# Altium integrated library Cypress Clocks & Buffers Clock Distribution.IntLib: 321 symbols (part 19 of 25)
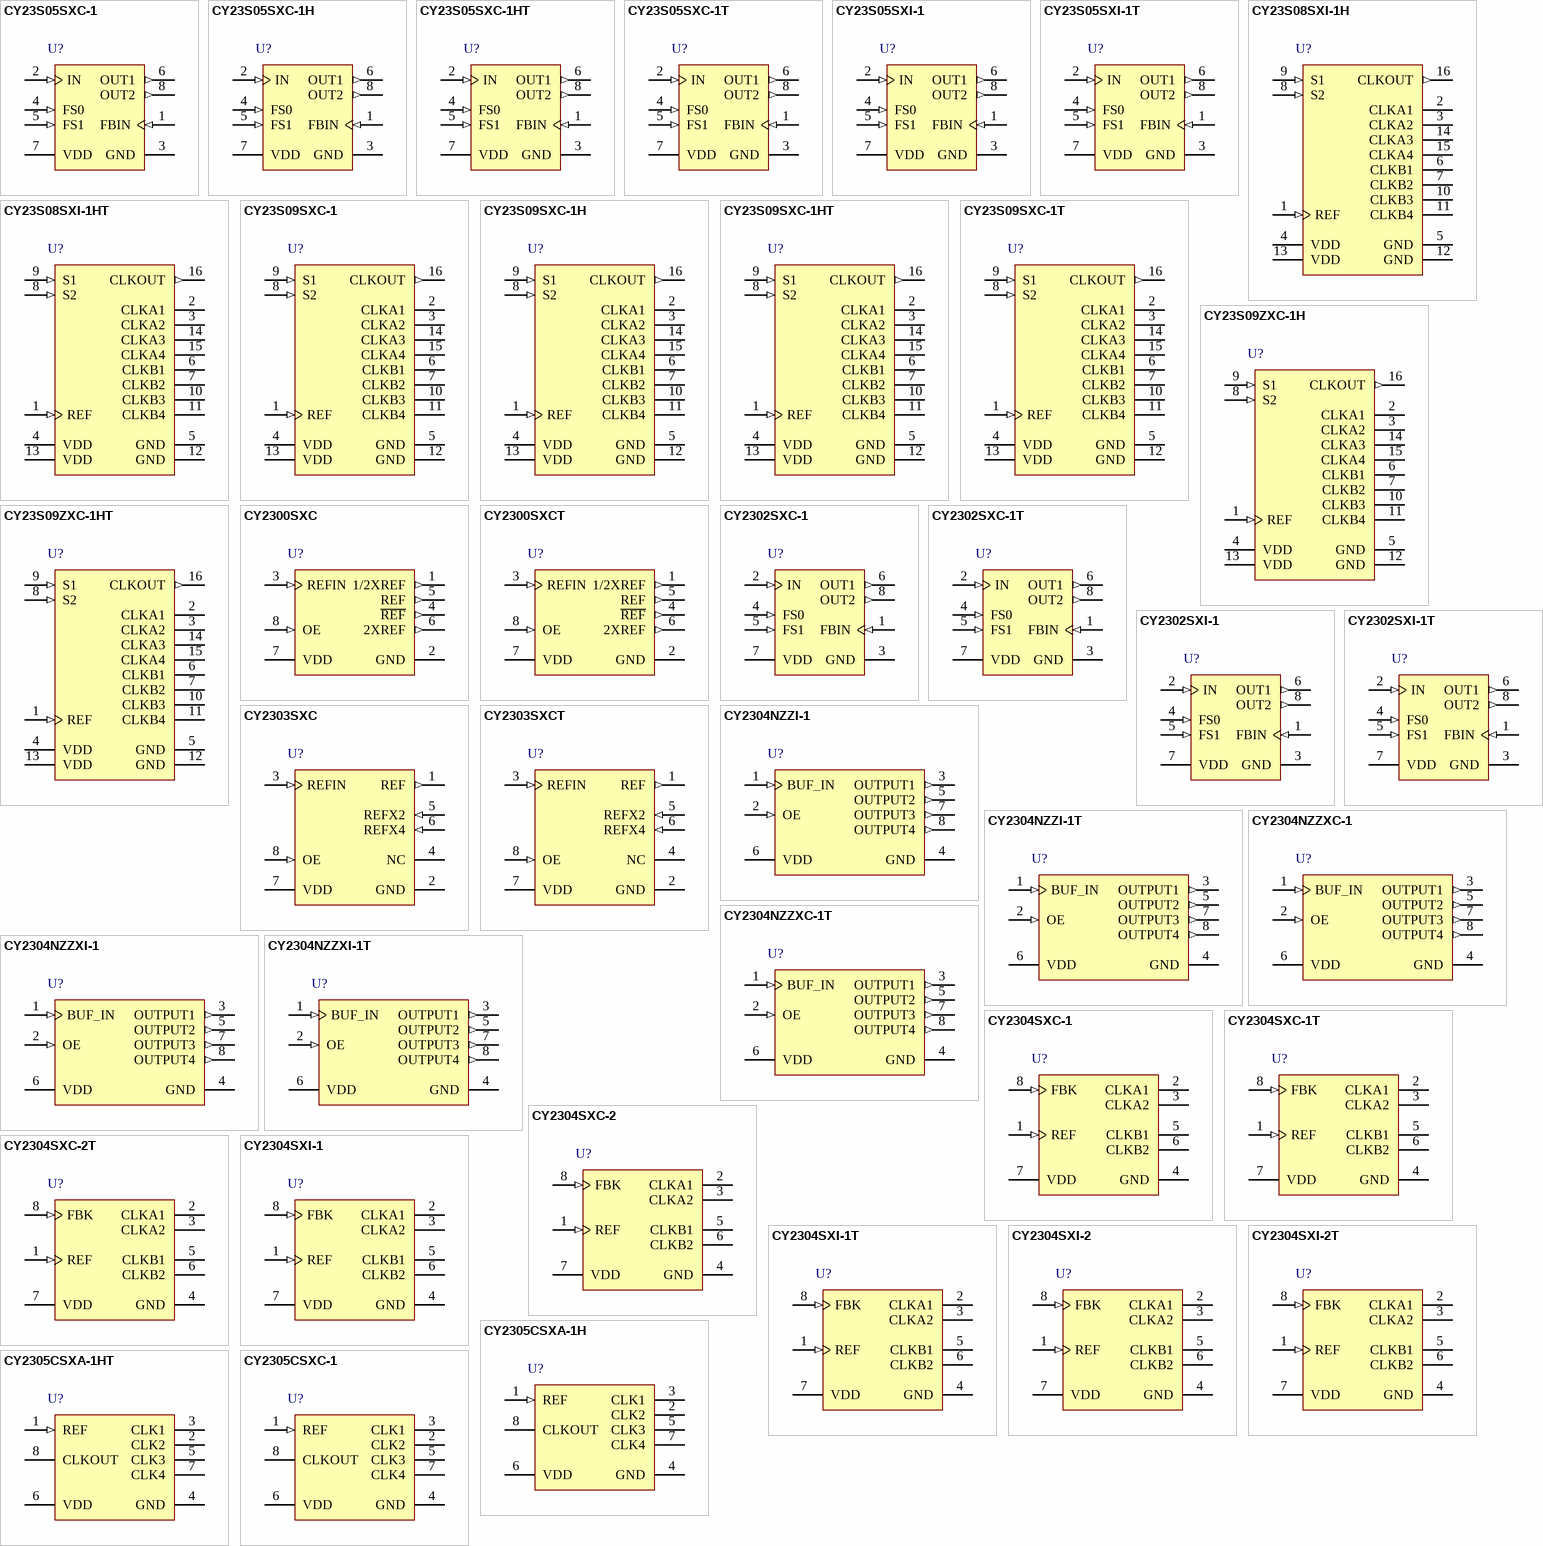
[diagram p34: symbols CY23S05SXC-1 to CY2305CSXC-1]

## CY23S09SXC-1T
designator U?
Low Cost Spread Aware Zero Delay Buffer, 3.3 V, 9 Outputs, 10 to 133 MHz, 0 to 70 degC, 16-Pin SOIC (SX16), Tape and Reel; Manufacturer: Cypress; PartNumber: CY23S09SXC-1T; Input Frequency Max. (MHz): 133; Input Frequency Min. (MHz): 10; Max. Operating Voltage (V): 3.6; Min. Operating Voltage (V): 3; No. of Outputs: 9; DatasheetVersion: Rev. *G; PackageVersion: Rev. *E, 09/2012; PackageReference: SX16; PackageDescription: 16-Pin SOIC (150 MIL), Body 9.89 x 3.90 mm, Pitch 1.27 mm; Supplier 1: Mouser; Supplier Part Number 1: 727-CY23S09SXC-1T; Max. Operating Temp. (degreesC): 70; Min. Operating Temp. (degreesC): 0; Output Frequency Max. (MHz): 133; Output Frequency Min. (MHz): 10; Packing: Tape and Reel; RoHS: Pb-Free; Mounting Technology: Surface Mount; Code_JEDEC: MS-012; ComponentLink1Description: Manufacturer URL; ComponentLink1URL: http://www.cypress.com/; ComponentLink2Description: Datasheet; ComponentLink2URL: http://www.cypress.com/?docID=31676; ComponentLink3Description: Package Specification; ComponentLink3URL: http://www.cypress.com/?docID=39437
footprint CYP-SX16_N (SOIC, 16-Leads, Body 9.9x3.9mm, Pitch 1.27mm, IPC Medium Density)
footprint CYP-SX16_L (SOIC, 16-Leads, Body 9.9x3.9mm, Pitch 1.27mm, IPC High Density)
footprint CYP-SX16_M (SOIC, 16-Leads, Body 9.9x3.9mm, Pitch 1.27mm, IPC Low Density)
pins: 1 REF (in) "Input reference frequency, 5 V tolerant input", 2 CLKA1 (hiz) "Buffered clock output, Bank A", 3 CLKA2 (hiz) "Buffered clock output, Bank A", 4 VDD (power) "3.3 V supply", 5 GND (power) "Ground", 6 CLKB1 (hiz) "Buffered clock output, Bank B", 7 CLKB2 (hiz) "Buffered clock output, Bank B", 8 S2 (in) "Select input, bit 2", 9 S1 (in) "Select input, bit 1", 10 CLKB3 (hiz) "Buffered clock output, Bank B", 11 CLKB4 (hiz) "Buffered clock output, Bank B", 12 GND (power) "Ground", 13 VDD (power) "3.3 V supply", 14 CLKA3 (hiz) "Buffered clock output, Bank A", 15 CLKA4 (hiz) "Buffered clock output, Bank A", 16 CLKOUT (out) "Buffered output, internal feedback on this pin"

## CY23S09ZXC-1H
designator U?
Low Cost Spread Aware Zero Delay Buffer, 3.3 V, 9 Outputs, 10 to 133 MHz, 0 to 70 degC, 16-Pin TSSOP (ZX16), Tube; Manufacturer: Cypress; PartNumber: CY23S09ZXC-1H; Input Frequency Max. (MHz): 133; Input Frequency Min. (MHz): 10; Max. Operating Voltage (V): 3.6; Min. Operating Voltage (V): 3; No. of Outputs: 9; DatasheetVersion: Rev. *G; PackageVersion: Rev. *D, 09/2011; PackageReference: ZX16; PackageDescription: 16-Pin Thin Shrink Small Outline Package, Body 5 x 4.4 mm, Pitch 0.65 mm; Supplier 1: Digi-Key; Supplier Part Number 1: 428-2216-5-ND; Supplier 2: Mouser; Supplier Part Number 2: 727-CY23S09ZXC-1H; Max. Operating Temp. (degreesC): 70; Min. Operating Temp. (degreesC): 0; Output Frequency Max. (MHz): 133; Output Frequency Min. (MHz): 10; Packing: Tube; RoHS: Pb-Free; Mounting Technology: Surface Mount; Code_JEDEC: MO-153; ComponentLink1Description: Manufacturer URL; ComponentLink1URL: http://www.cypress.com/; ComponentLink2Description: Datasheet; ComponentLink2URL: http://www.cypress.com/?docID=31676; ComponentLink3Description: Package Specification; ComponentLink3URL: http://www.cypress.com/?docID=39143
footprint CYP-ZX16_N (SOP, 16-Leads, Body 5.1x4.5mm, Pitch 0.65mm, IPC Medium Density)
footprint CYP-ZX16_L (SOP, 16-Leads, Body 5.1x4.5mm, Pitch 0.65mm, IPC High Density)
footprint CYP-ZX16_M (SOP, 16-Leads, Body 5.1x4.5mm, Pitch 0.65mm, IPC Low Density)
pins: 1 REF (in) "Input reference frequency, 5 V tolerant input", 2 CLKA1 (hiz) "Buffered clock output, Bank A", 3 CLKA2 (hiz) "Buffered clock output, Bank A", 4 VDD (power) "3.3 V supply", 5 GND (power) "Ground", 6 CLKB1 (hiz) "Buffered clock output, Bank B", 7 CLKB2 (hiz) "Buffered clock output, Bank B", 8 S2 (in) "Select input, bit 2", 9 S1 (in) "Select input, bit 1", 10 CLKB3 (hiz) "Buffered clock output, Bank B", 11 CLKB4 (hiz) "Buffered clock output, Bank B", 12 GND (power) "Ground", 13 VDD (power) "3.3 V supply", 14 CLKA3 (hiz) "Buffered clock output, Bank A", 15 CLKA4 (hiz) "Buffered clock output, Bank A", 16 CLKOUT (out) "Buffered output, internal feedback on this pin"

## CY23S09ZXC-1HT
designator U?
Low Cost Spread Aware Zero Delay Buffer, 3.3 V, 9 Outputs, 10 to 133 MHz, 0 to 70 degC, 16-Pin TSSOP (ZX16), Tape and Reel; Manufacturer: Cypress; PartNumber: CY23S09ZXC-1HT; Input Frequency Max. (MHz): 133; Input Frequency Min. (MHz): 10; Max. Operating Voltage (V): 3.6; Min. Operating Voltage (V): 3; No. of Outputs: 9; DatasheetVersion: Rev. *G; PackageVersion: Rev. *D, 09/2011; PackageReference: ZX16; PackageDescription: 16-Pin Thin Shrink Small Outline Package, Body 5 x 4.4 mm, Pitch 0.65 mm; Supplier 1: Mouser; Supplier Part Number 1: 727-CY23S09ZXC-1HT; Max. Operating Temp. (degreesC): 70; Min. Operating Temp. (degreesC): 0; Output Frequency Max. (MHz): 133; Output Frequency Min. (MHz): 10; Packing: Tape and Reel; RoHS: Pb-Free; Mounting Technology: Surface Mount; Code_JEDEC: MO-153; ComponentLink1Description: Manufacturer URL; ComponentLink1URL: http://www.cypress.com/; ComponentLink2Description: Datasheet; ComponentLink2URL: http://www.cypress.com/?docID=31676; ComponentLink3Description: Package Specification; ComponentLink3URL: http://www.cypress.com/?docID=39143
footprint CYP-ZX16_N (SOP, 16-Leads, Body 5.1x4.5mm, Pitch 0.65mm, IPC Medium Density)
footprint CYP-ZX16_L (SOP, 16-Leads, Body 5.1x4.5mm, Pitch 0.65mm, IPC High Density)
footprint CYP-ZX16_M (SOP, 16-Leads, Body 5.1x4.5mm, Pitch 0.65mm, IPC Low Density)
pins: 1 REF (in) "Input reference frequency, 5 V tolerant input", 2 CLKA1 (hiz) "Buffered clock output, Bank A", 3 CLKA2 (hiz) "Buffered clock output, Bank A", 4 VDD (power) "3.3 V supply", 5 GND (power) "Ground", 6 CLKB1 (hiz) "Buffered clock output, Bank B", 7 CLKB2 (hiz) "Buffered clock output, Bank B", 8 S2 (in) "Select input, bit 2", 9 S1 (in) "Select input, bit 1", 10 CLKB3 (hiz) "Buffered clock output, Bank B", 11 CLKB4 (hiz) "Buffered clock output, Bank B", 12 GND (power) "Ground", 13 VDD (power) "3.3 V supply", 14 CLKA3 (hiz) "Buffered clock output, Bank A", 15 CLKA4 (hiz) "Buffered clock output, Bank A", 16 CLKOUT (out) "Buffered output, internal feedback on this pin"

## CY2300SXC
designator U?
Phase-Aligned Clock Multiplier, 3.3 V, 4 Outputs, 10 to 166.67 MHz, 0 to 70 degC, 8-Pin SOIC (SX8), Tube; Manufacturer: Cypress; PartNumber: CY2300SXC; Max. Operating Voltage (V): 3.6; Min. Operating Voltage (V): 3; No. of Outputs: 4; Output Frequency Max. (MHz): 166.67; Output Frequency Min. (MHz): 10; DatasheetVersion: Rev. *E; PackageVersion: Rev. *E, 06/2011; PackageReference: SX8; PackageDescription: 8-pin Lead SOIC-S08, Body 4.89 x 3.90 mm,Pitch 1.27 mm; Supplier 1: Digi-Key; Supplier Part Number 1: CY2300SXC-ND; Supplier 2: Mouser; Supplier Part Number 2: 727-CY2300SXC; Max. Operating Temp. (degreesC): 70; Min. Operating Temp. (degreesC): 0; Packing: Tube; RoHS: Pb-Free; Mounting Technology: Surface Mount; Code_JEDEC: MS-012; ComponentLink1Description: Manufacturer URL; ComponentLink1URL: http://www.cypress.com/; ComponentLink2Description: Datasheet; ComponentLink2URL: http://www.cypress.com/?docID=46963; ComponentLink3Description: Package Specification; ComponentLink3URL: http://www.cypress.com/?docID=39153
footprint CYP-SX8_N (SOIC, 8-Leads, Body 4.89x3.90mm, Pitch 1.27mm, IPC Medium Density)
footprint CYP-SX8_L (SOIC, 8-Leads, Body 4.89x3.90mm, Pitch 1.27mm, IPC High Density)
footprint CYP-SX8_M (SOIC, 8-Leads, Body 4.89x3.90mm, Pitch 1.27mm, IPC Low Density)
pins: 1 1/2XREF (out) "Clock output, 1/2x reference", 2 GND (power) "Ground", 3 REFIN (in) "Input reference frequency, 5 V tolerant input", 4 ~{REF} (out) "Clock output r\e\f\e\r\e\n\c\e\", 5 REF (out) "Clock output reference", 6 2XREF (out) "Clock output, 2x reference", 7 VDD (power) "3.3 V Supply", 8 OE (in) "Output enable (weak pull-up)"

## CY2300SXCT
designator U?
Phase-Aligned Clock Multiplier, 3.3 V, 4 Outputs, 10 to 166.67 MHz, 0 to 70 degC, 8-Pin SOIC (SX8), Tape and Reel; Manufacturer: Cypress; PartNumber: CY2300SXCT; Max. Operating Voltage (V): 3.6; Min. Operating Voltage (V): 3; No. of Outputs: 4; Output Frequency Max. (MHz): 166.67; Output Frequency Min. (MHz): 10; DatasheetVersion: Rev. *E; PackageVersion: Rev. *E, 06/2011; PackageReference: SX8; PackageDescription: 8-pin Lead SOIC-S08, Body 4.89 x 3.90 mm,Pitch 1.27 mm; Supplier 1: Digi-Key; Supplier Part Number 1: CY2300SXCT-ND; Supplier 2: Newark; Supplier Part Number 2: 19M2113; Supplier 3: Mouser; Supplier Part Number 3: 727-CY2300SXCT; Max. Operating Temp. (degreesC): 70; Min. Operating Temp. (degreesC): 0; Packing: Tape and Reel; RoHS: Pb-Free; Mounting Technology: Surface Mount; Code_JEDEC: MS-012; ComponentLink1Description: Manufacturer URL; ComponentLink1URL: http://www.cypress.com/; ComponentLink2Description: Datasheet; ComponentLink2URL: http://www.cypress.com/?docID=46963; ComponentLink3Description: Package Specification; ComponentLink3URL: http://www.cypress.com/?docID=39153
footprint CYP-SX8_N (SOIC, 8-Leads, Body 4.89x3.90mm, Pitch 1.27mm, IPC Medium Density)
footprint CYP-SX8_L (SOIC, 8-Leads, Body 4.89x3.90mm, Pitch 1.27mm, IPC High Density)
footprint CYP-SX8_M (SOIC, 8-Leads, Body 4.89x3.90mm, Pitch 1.27mm, IPC Low Density)
pins: 1 1/2XREF (out) "Clock output, 1/2x reference", 2 GND (power) "Ground", 3 REFIN (in) "Input reference frequency, 5 V tolerant input", 4 ~{REF} (out) "Clock output r\e\f\e\r\e\n\c\e\", 5 REF (out) "Clock output reference", 6 2XREF (out) "Clock output, 2x reference", 7 VDD (power) "3.3 V Supply", 8 OE (in) "Output enable (weak pull-up)"

## CY2302SXC-1
designator U?
Frequency Multiplier and Zero Delay Buffer, 3.3 / 5.0 V, 2 Outputs, 5 to 133 MHz, 0 to 70 degC, 8-Pin SOIC (SX8), Tube; Manufacturer: Cypress; PartNumber: CY2302SXC-1; Input Frequency Max. (MHz): 133; Input Frequency Min. (MHz): 5; Max. Operating Voltage (V): 5.5; Min. Operating Voltage (V): 3.135; No. of Outputs: 2; DatasheetVersion: Rev. *F; PackageVersion: Rev. *E, 06/2011; PackageReference: SX8; PackageDescription: 8-pin Lead SOIC-S08, Body 4.89 x 3.90 mm,Pitch 1.27 mm; Supplier 1: Digi-Key; Supplier Part Number 1: 428-2187-5-ND; Supplier 2: Farnell; Supplier Part Number 2: 1545753; Supplier 3: Newark; Supplier Part Number 3: 19M2116; Supplier 4: Mouser; Supplier Part Number 4: 727-CY2302SXC-1; Max. Operating Temp. (degreesC): 70; Min. Operating Temp. (degreesC): 0; Output Frequency Max. (MHz): 133; Output Frequency Min. (MHz): 5; Packing: Tube; RoHS: Pb-Free; Mounting Technology: Surface Mount; Code_JEDEC: MS-012; ComponentLink1Description: Manufacturer URL; ComponentLink1URL: http://www.cypress.com/; ComponentLink2Description: Datasheet; ComponentLink2URL: http://www.cypress.com/?docID=48817; ComponentLink3Description: Package Specification; ComponentLink3URL: http://www.cypress.com/?docID=39153
footprint CYP-SX8_N (SOIC, 8-Leads, Body 4.89x3.90mm, Pitch 1.27mm, IPC Medium Density)
footprint CYP-SX8_L (SOIC, 8-Leads, Body 4.89x3.90mm, Pitch 1.27mm, IPC High Density)
footprint CYP-SX8_M (SOIC, 8-Leads, Body 4.89x3.90mm, Pitch 1.27mm, IPC Low Density)
pins: 1 FBIN (in) "Feedback Input: This input must be fed by one of the outputs (OUT1 or OUT2) to ensure proper functionality. If the trace between FBIN and the output pin being used for feedback is equal in length to the traces between the (See Datasheet)", 2 IN (in) "Reference Input: The output signals are synchronized to this signal.", 3 GND (power) "Ground Connection: Connect all grounds to the common system ground plane.", 4 FS0 (in) "Function Select Inputs: Tie to VDD (HIGH, 1) or GND (LOW, 0) as desired per Table 1.", 5 FS1 (in) "Function Select Inputs: Tie to VDD (HIGH, 1) or GND (LOW, 0) as desired per Table 1.", 6 OUT1 (out) "Output 1: The frequency of the signal provided by this pin is determined by the feedback signal connected to FBIN, and the FS0:1 inputs (see Table 1).", 7 VDD (power) "Power Connections: Connect to 3.3V or 5V. This pin should be bypassed with a 0.1-uF decoupling capacitor. Use ferrite beads to help reduce noise for optimal jitter performance.", 8 OUT2 (out) "Output 2: The frequency of the signal provided by this pin is one half of the frequency of OUT1. See Table 1."

## CY2302SXC-1T
designator U?
Frequency Multiplier and Zero Delay Buffer, 3.3 / 5.0 V, 2 Outputs, 5 to 133 MHz, 0 to 70 degC, 8-Pin SOIC (SX8), Tape and Reel; Manufacturer: Cypress; PartNumber: CY2302SXC-1T; Input Frequency Max. (MHz): 133; Input Frequency Min. (MHz): 5; Max. Operating Voltage (V): 5.5; Min. Operating Voltage (V): 3.135; No. of Outputs: 2; DatasheetVersion: Rev. *F; PackageVersion: Rev. *E, 06/2011; PackageReference: SX8; PackageDescription: 8-pin Lead SOIC-S08, Body 4.89 x 3.90 mm,Pitch 1.27 mm; Supplier 1: Digi-Key; Supplier Part Number 1: CY2302SXC-1T-ND; Supplier 2: Newark; Supplier Part Number 2: 19M2117; Supplier 3: Mouser; Supplier Part Number 3: 727-CY2302SXC-1T; Max. Operating Temp. (degreesC): 70; Min. Operating Temp. (degreesC): 0; Output Frequency Max. (MHz): 133; Output Frequency Min. (MHz): 5; Packing: Tape and Reel; RoHS: Pb-Free; Mounting Technology: Surface Mount; Code_JEDEC: MS-012; ComponentLink1Description: Manufacturer URL; ComponentLink1URL: http://www.cypress.com/; ComponentLink2Description: Datasheet; ComponentLink2URL: http://www.cypress.com/?docID=48817; ComponentLink3Description: Package Specification; ComponentLink3URL: http://www.cypress.com/?docID=39153
footprint CYP-SX8_N (SOIC, 8-Leads, Body 4.89x3.90mm, Pitch 1.27mm, IPC Medium Density)
footprint CYP-SX8_L (SOIC, 8-Leads, Body 4.89x3.90mm, Pitch 1.27mm, IPC High Density)
footprint CYP-SX8_M (SOIC, 8-Leads, Body 4.89x3.90mm, Pitch 1.27mm, IPC Low Density)
pins: 1 FBIN (in) "Feedback Input: This input must be fed by one of the outputs (OUT1 or OUT2) to ensure proper functionality. If the trace between FBIN and the output pin being used for feedback is equal in length to the traces between the (See Datasheet)", 2 IN (in) "Reference Input: The output signals are synchronized to this signal.", 3 GND (power) "Ground Connection: Connect all grounds to the common system ground plane.", 4 FS0 (in) "Function Select Inputs: Tie to VDD (HIGH, 1) or GND (LOW, 0) as desired per Table 1.", 5 FS1 (in) "Function Select Inputs: Tie to VDD (HIGH, 1) or GND (LOW, 0) as desired per Table 1.", 6 OUT1 (out) "Output 1: The frequency of the signal provided by this pin is determined by the feedback signal connected to FBIN, and the FS0:1 inputs (see Table 1).", 7 VDD (power) "Power Connections: Connect to 3.3V or 5V. This pin should be bypassed with a 0.1-uF decoupling capacitor. Use ferrite beads to help reduce noise for optimal jitter performance.", 8 OUT2 (out) "Output 2: The frequency of the signal provided by this pin is one half of the frequency of OUT1. See Table 1."

## CY2302SXI-1
designator U?
Frequency Multiplier and Zero Delay Buffer, 3.3 / 5.0 V, 2 Outputs, 5 to 133 MHz, -40 to 85 degC, 8-Pin SOIC (SX8), Tube; Manufacturer: Cypress; PartNumber: CY2302SXI-1; Input Frequency Max. (MHz): 133; Input Frequency Min. (MHz): 5; Max. Operating Voltage (V): 5.5; Min. Operating Voltage (V): 3.135; No. of Outputs: 2; DatasheetVersion: Rev. *F; PackageVersion: Rev. *E, 06/2011; PackageReference: SX8; PackageDescription: 8-pin Lead SOIC-S08, Body 4.89 x 3.90 mm,Pitch 1.27 mm; Supplier 1: Digi-Key; Supplier Part Number 1: 428-2188-5-ND; Supplier 2: Farnell; Supplier Part Number 2: 1876393; Supplier 3: Newark; Supplier Part Number 3: 53M3379; Supplier 4: Newark; Supplier Part Number 4: 08N5367; Supplier 5: Mouser; Supplier Part Number 5: 727-CY2302SXI-1; Max. Operating Temp. (degreesC): 85; Min. Operating Temp. (degreesC): -40; Output Frequency Max. (MHz): 133; Output Frequency Min. (MHz): 5; Packing: Tube; RoHS: Pb-Free; Mounting Technology: Surface Mount; Code_JEDEC: MS-012; ComponentLink1Description: Manufacturer URL; ComponentLink1URL: http://www.cypress.com/; ComponentLink2Description: Datasheet; ComponentLink2URL: http://www.cypress.com/?docID=48817; ComponentLink3Description: Package Specification; ComponentLink3URL: http://www.cypress.com/?docID=39153
footprint CYP-SX8_N (SOIC, 8-Leads, Body 4.89x3.90mm, Pitch 1.27mm, IPC Medium Density)
footprint CYP-SX8_L (SOIC, 8-Leads, Body 4.89x3.90mm, Pitch 1.27mm, IPC High Density)
footprint CYP-SX8_M (SOIC, 8-Leads, Body 4.89x3.90mm, Pitch 1.27mm, IPC Low Density)
pins: 1 FBIN (in) "Feedback Input: This input must be fed by one of the outputs (OUT1 or OUT2) to ensure proper functionality. If the trace between FBIN and the output pin being used for feedback is equal in length to the traces between the (See Datasheet)", 2 IN (in) "Reference Input: The output signals are synchronized to this signal.", 3 GND (power) "Ground Connection: Connect all grounds to the common system ground plane.", 4 FS0 (in) "Function Select Inputs: Tie to VDD (HIGH, 1) or GND (LOW, 0) as desired per Table 1.", 5 FS1 (in) "Function Select Inputs: Tie to VDD (HIGH, 1) or GND (LOW, 0) as desired per Table 1.", 6 OUT1 (out) "Output 1: The frequency of the signal provided by this pin is determined by the feedback signal connected to FBIN, and the FS0:1 inputs (see Table 1).", 7 VDD (power) "Power Connections: Connect to 3.3V or 5V. This pin should be bypassed with a 0.1-uF decoupling capacitor. Use ferrite beads to help reduce noise for optimal jitter performance.", 8 OUT2 (out) "Output 2: The frequency of the signal provided by this pin is one half of the frequency of OUT1. See Table 1."

## CY2302SXI-1T
designator U?
Frequency Multiplier and Zero Delay Buffer, 3.3 / 5.0 V, 2 Outputs, 5 to 133 MHz, -40 to 85 degC, 8-Pin SOIC (SX8), Tape and Reel; Manufacturer: Cypress; PartNumber: CY2302SXI-1T; Input Frequency Max. (MHz): 133; Input Frequency Min. (MHz): 5; Max. Operating Voltage (V): 5.5; Min. Operating Voltage (V): 3.135; No. of Outputs: 2; DatasheetVersion: Rev. *F; PackageVersion: Rev. *E, 06/2011; PackageReference: SX8; PackageDescription: 8-pin Lead SOIC-S08, Body 4.89 x 3.90 mm,Pitch 1.27 mm; Supplier 1: Digi-Key; Supplier Part Number 1: CY2302SXI-1T-ND; Supplier 2: Newark; Supplier Part Number 2: 41M1197; Supplier 3: Mouser; Supplier Part Number 3: 727-CY2302SXI-1T; Max. Operating Temp. (degreesC): 85; Min. Operating Temp. (degreesC): -40; Output Frequency Max. (MHz): 133; Output Frequency Min. (MHz): 5; Packing: Tape and Reel; RoHS: Pb-Free; Mounting Technology: Surface Mount; Code_JEDEC: MS-012; ComponentLink1Description: Manufacturer URL; ComponentLink1URL: http://www.cypress.com/; ComponentLink2Description: Datasheet; ComponentLink2URL: http://www.cypress.com/?docID=48817; ComponentLink3Description: Package Specification; ComponentLink3URL: http://www.cypress.com/?docID=39153
footprint CYP-SX8_N (SOIC, 8-Leads, Body 4.89x3.90mm, Pitch 1.27mm, IPC Medium Density)
footprint CYP-SX8_L (SOIC, 8-Leads, Body 4.89x3.90mm, Pitch 1.27mm, IPC High Density)
footprint CYP-SX8_M (SOIC, 8-Leads, Body 4.89x3.90mm, Pitch 1.27mm, IPC Low Density)
pins: 1 FBIN (in) "Feedback Input: This input must be fed by one of the outputs (OUT1 or OUT2) to ensure proper functionality. If the trace between FBIN and the output pin being used for feedback is equal in length to the traces between the (See Datasheet)", 2 IN (in) "Reference Input: The output signals are synchronized to this signal.", 3 GND (power) "Ground Connection: Connect all grounds to the common system ground plane.", 4 FS0 (in) "Function Select Inputs: Tie to VDD (HIGH, 1) or GND (LOW, 0) as desired per Table 1.", 5 FS1 (in) "Function Select Inputs: Tie to VDD (HIGH, 1) or GND (LOW, 0) as desired per Table 1.", 6 OUT1 (out) "Output 1: The frequency of the signal provided by this pin is determined by the feedback signal connected to FBIN, and the FS0:1 inputs (see Table 1).", 7 VDD (power) "Power Connections: Connect to 3.3V or 5V. This pin should be bypassed with a 0.1-uF decoupling capacitor. Use ferrite beads to help reduce noise for optimal jitter performance.", 8 OUT2 (out) "Output 2: The frequency of the signal provided by this pin is one half of the frequency of OUT1. See Table 1."

## CY2303SXC
designator U?
Phase-Aligned Clock Multiplier, 3.3 V, 3 Outputs, 10 to 166.67 MHz, 0 to 70 degC, 8-Pin SOIC (SX8), Tube; Manufacturer: Cypress; PartNumber: CY2303SXC; Input Frequency Max. (MHz): 166.67; Input Frequency Min. (MHz): 10; Max. Operating Voltage (V): 3.6; Min. Operating Voltage (V): 3; DatasheetVersion: Rev. *G; PackageVersion: Rev. *E, 06/2011; PackageReference: SX8; PackageDescription: 8-pin Lead SOIC-S08, Body 4.89 x 3.90 mm,Pitch 1.27 mm; Supplier 1: Digi-Key; Supplier Part Number 1: 428-2189-5-ND; Supplier 2: Mouser; Supplier Part Number 2: 727-CY2303SXC; Max. Operating Temp. (degreesC): 70; Min. Operating Temp. (degreesC): 0; No. of Outputs: 3; Output Frequency Max. (MHz): 166.67; Output Frequency Min. (MHz): 10; Packing: Tube; RoHS: Pb-Free; Mounting Technology: Surface Mount; Code_JEDEC: MS-012; ComponentLink1Description: Manufacturer URL; ComponentLink1URL: http://www.cypress.com/; ComponentLink2Description: Datasheet; ComponentLink2URL: http://www.cypress.com/?docID=46689; ComponentLink3Description: Package Specification; ComponentLink3URL: http://www.cypress.com/?docID=39153
footprint CYP-SX8_N (SOIC, 8-Leads, Body 4.89x3.90mm, Pitch 1.27mm, IPC Medium Density)
footprint CYP-SX8_L (SOIC, 8-Leads, Body 4.89x3.90mm, Pitch 1.27mm, IPC High Density)
footprint CYP-SX8_M (SOIC, 8-Leads, Body 4.89x3.90mm, Pitch 1.27mm, IPC Low Density)
pins: 1 REF (out) "REF output (1x reference input)", 2 GND (power) "Ground", 3 REFIN (in) "Input reference frequency, 5 V tolerant input", 4 NC "No connect", 5 REFX2 (in) "2x reference input", 6 REFX4 (in) "4x reference input", 7 VDD (power) "3.3 V supply", 8 OE (in) "Output enable (weak pull-up)"

## CY2303SXCT
designator U?
Phase-Aligned Clock Multiplier, 3.3 V, 3 Outputs, 10 to 166.67 MHz, 0 to 70 degC, 8-Pin SOIC (SX8), Tape and Reel; Manufacturer: Cypress; PartNumber: CY2303SXCT; Input Frequency Max. (MHz): 166.67; Input Frequency Min. (MHz): 10; Max. Operating Voltage (V): 3.6; Min. Operating Voltage (V): 3; DatasheetVersion: Rev. *G; PackageVersion: Rev. *E, 06/2011; PackageReference: SX8; PackageDescription: 8-pin Lead SOIC-S08, Body 4.89 x 3.90 mm,Pitch 1.27 mm; Supplier 1: Digi-Key; Supplier Part Number 1: CY2303SXCT-ND; Supplier 2: Mouser; Supplier Part Number 2: 727-CY2303SXCT; Max. Operating Temp. (degreesC): 70; Min. Operating Temp. (degreesC): 0; No. of Outputs: 3; Output Frequency Max. (MHz): 166.67; Output Frequency Min. (MHz): 10; Packing: Tape and Reel; RoHS: Pb-Free; Mounting Technology: Surface Mount; Code_JEDEC: MS-012; ComponentLink1Description: Manufacturer URL; ComponentLink1URL: http://www.cypress.com/; ComponentLink2Description: Datasheet; ComponentLink2URL: http://www.cypress.com/?docID=46689; ComponentLink3Description: Package Specification; ComponentLink3URL: http://www.cypress.com/?docID=39153
footprint CYP-SX8_N (SOIC, 8-Leads, Body 4.89x3.90mm, Pitch 1.27mm, IPC Medium Density)
footprint CYP-SX8_L (SOIC, 8-Leads, Body 4.89x3.90mm, Pitch 1.27mm, IPC High Density)
footprint CYP-SX8_M (SOIC, 8-Leads, Body 4.89x3.90mm, Pitch 1.27mm, IPC Low Density)
pins: 1 REF (out) "REF output (1x reference input)", 2 GND (power) "Ground", 3 REFIN (in) "Input reference frequency, 5 V tolerant input", 4 NC "No connect", 5 REFX2 (in) "2x reference input", 6 REFX4 (in) "4x reference input", 7 VDD (power) "3.3 V supply", 8 OE (in) "Output enable (weak pull-up)"

## CY2304NZZI-1
designator U?
PCI-X and General Purpose Buffer, 3.3 V, 4 Outputs, 140 MHz Maximum, -40 to 85 degC, 8-Pin TSSOP (Z8), Tube; Manufacturer: Cypress; PartNumber: CY2304NZZI-1; Input Frequency Max. (MHz): 140; Max. Operating Voltage (V): 3.6; Min. Operating Voltage (V): 3; No. of Outputs: 4; DatasheetVersion: Rev. *H; PackageVersion: Rev. *D; PackageReference: Z8; PackageDescription: 8-Pin Thin Shrink Small Outline Package, Body 4.4 x 3 mm, Pitch 0.65 mm; Supplier 1: Digi-Key; Supplier Part Number 1: CY2304NZZI-1-ND; Supplier 2: Mouser; Supplier Part Number 2: 727-CY2304NZZI1; Max. Operating Temp. (degreesC): 85; Min. Operating Temp. (degreesC): -40; Output Frequency Max. (MHz): 140; Packing: Tube; Mounting Technology: Surface Mount; Code_JEDEC: MO-153; ComponentLink1Description: Manufacturer URL; ComponentLink1URL: http://www.cypress.com/; ComponentLink2Description: Datasheet; ComponentLink2URL: http://www.cypress.com/?docID=48468; ComponentLink3Description: Package Specification; ComponentLink3URL: http://www.cypress.com/?docID=46096
footprint CYP-Z8_N (SOP, 8-Leads, Body 4.5x3.1mm, Pitch 0.65mm, IPC Medium Density)
footprint CYP-Z8_L (SOP, 8-Leads, Body 4.5x3.1mm, Pitch 0.65mm, IPC High Density)
footprint CYP-Z8_M (SOP, 8-Leads, Body 4.5x3.1mm, Pitch 0.65mm, IPC Low Density)
pins: 1 BUF_IN (in) "Input clock", 2 OE (in) "Input pin for output enable, active HIGH.", 3 OUTPUT1 (out) "Outputs", 4 GND (power) "Ground", 5 OUTPUT2 (out) "Outputs", 6 VDD (power) "3.3 V voltage supply", 7 OUTPUT3 (out) "Outputs", 8 OUTPUT4 (out) "Outputs"

## CY2304NZZI-1T
designator U?
PCI-X and General Purpose Buffer, 3.3 V, 4 Outputs, 140 MHz Maximum, -40 to 85 degC, 8-Pin TSSOP (Z8), Tape and Reel; Manufacturer: Cypress; PartNumber: CY2304NZZI-1T; Input Frequency Max. (MHz): 140; Max. Operating Voltage (V): 3.6; Min. Operating Voltage (V): 3; No. of Outputs: 4; DatasheetVersion: Rev. *H; PackageVersion: Rev. *D; PackageReference: Z8; PackageDescription: 8-Pin Thin Shrink Small Outline Package, Body 4.4 x 3 mm, Pitch 0.65 mm; Supplier 1: Mouser; Supplier Part Number 1: N/A; Max. Operating Temp. (degreesC): 85; Min. Operating Temp. (degreesC): -40; Output Frequency Max. (MHz): 140; Packing: Tape and Reel; Mounting Technology: Surface Mount; Code_JEDEC: MO-153; ComponentLink1Description: Manufacturer URL; ComponentLink1URL: http://www.cypress.com/; ComponentLink2Description: Datasheet; ComponentLink2URL: http://www.cypress.com/?docID=48468; ComponentLink3Description: Package Specification; ComponentLink3URL: http://www.cypress.com/?docID=46096
footprint CYP-Z8_N (SOP, 8-Leads, Body 4.5x3.1mm, Pitch 0.65mm, IPC Medium Density)
footprint CYP-Z8_L (SOP, 8-Leads, Body 4.5x3.1mm, Pitch 0.65mm, IPC High Density)
footprint CYP-Z8_M (SOP, 8-Leads, Body 4.5x3.1mm, Pitch 0.65mm, IPC Low Density)
pins: 1 BUF_IN (in) "Input clock", 2 OE (in) "Input pin for output enable, active HIGH.", 3 OUTPUT1 (out) "Outputs", 4 GND (power) "Ground", 5 OUTPUT2 (out) "Outputs", 6 VDD (power) "3.3 V voltage supply", 7 OUTPUT3 (out) "Outputs", 8 OUTPUT4 (out) "Outputs"

## CY2304NZZXC-1
designator U?
PCI-X and General Purpose Buffer, 3.3 V, 4 Outputs, 140 MHz Maximum, 0 to 70 degC, 8-Pin TSSOP (ZX8), Tube; Manufacturer: Cypress; PartNumber: CY2304NZZXC-1; Input Frequency Max. (MHz): 140; Max. Operating Voltage (V): 3.6; Min. Operating Voltage (V): 3; No. of Outputs: 4; DatasheetVersion: Rev. *H; PackageVersion: Rev. *D, 09/2011; PackageReference: ZX8; PackageDescription: 8-Pin Thin Shrink Small Outline Package, Body 4.4 x 3 mm, Pitch 0.65 mm; Supplier 1: Digi-Key; Supplier Part Number 1: 428-2190-ND; Supplier 2: Farnell; Supplier Part Number 2: 1837337; Supplier 3: Newark; Supplier Part Number 3: 19M5952; Supplier 4: Newark; Supplier Part Number 4: 14N5460; Supplier 5: Mouser; Supplier Part Number 5: 727-CY2304NZZXC-1; Max. Operating Temp. (degreesC): 70; Min. Operating Temp. (degreesC): 0; Output Frequency Max. (MHz): 140; Packing: Tube; RoHS: Pb-Free; Mounting Technology: Surface Mount; Code_JEDEC: MO-153; ComponentLink1Description: Manufacturer URL; ComponentLink1URL: http://www.cypress.com/; ComponentLink2Description: Datasheet; ComponentLink2URL: http://www.cypress.com/?docID=48468; ComponentLink3Description: Package Specification; ComponentLink3URL: http://www.cypress.com/?docID=39142
footprint CYP-ZX8_N (SOP, 8-Leads, Body 4.5x3.1mm, Pitch 0.65mm, IPC Medium Density)
footprint CYP-ZX8_L (SOP, 8-Leads, Body 4.5x3.1mm, Pitch 0.65mm, IPC High Density)
footprint CYP-ZX8_M (SOP, 8-Leads, Body 4.5x3.1mm, Pitch 0.65mm, IPC Low Density)
pins: 1 BUF_IN (in) "Input clock", 2 OE (in) "Input pin for output enable, active HIGH.", 3 OUTPUT1 (out) "Outputs", 4 GND (power) "Ground", 5 OUTPUT2 (out) "Outputs", 6 VDD (power) "3.3 V voltage supply", 7 OUTPUT3 (out) "Outputs", 8 OUTPUT4 (out) "Outputs"

## CY2304NZZXC-1T
designator U?
PCI-X and General Purpose Buffer, 3.3 V, 4 Outputs, 140 MHz Maximum, 0 to 70 degC, 8-Pin TSSOP (ZX8), Tape and Reel; Manufacturer: Cypress; PartNumber: CY2304NZZXC-1T; Input Frequency Max. (MHz): 140; Max. Operating Voltage (V): 3.6; Min. Operating Voltage (V): 3; No. of Outputs: 4; DatasheetVersion: Rev. *H; PackageVersion: Rev. *D, 09/2011; PackageReference: ZX8; PackageDescription: 8-Pin Thin Shrink Small Outline Package, Body 4.4 x 3 mm, Pitch 0.65 mm; Supplier 1: Digi-Key; Supplier Part Number 1: CY2304NZZXC-1T-ND; Supplier 2: Newark; Supplier Part Number 2: 19M5953; Supplier 3: Mouser; Supplier Part Number 3: 727-CY2304NZZXC-1T; Max. Operating Temp. (degreesC): 70; Min. Operating Temp. (degreesC): 0; Output Frequency Max. (MHz): 140; Packing: Tape and Reel; RoHS: Pb-Free; Mounting Technology: Surface Mount; Code_JEDEC: MO-153; ComponentLink1Description: Manufacturer URL; ComponentLink1URL: http://www.cypress.com/; ComponentLink2Description: Datasheet; ComponentLink2URL: http://www.cypress.com/?docID=48468; ComponentLink3Description: Package Specification; ComponentLink3URL: http://www.cypress.com/?docID=39142
footprint CYP-ZX8_N (SOP, 8-Leads, Body 4.5x3.1mm, Pitch 0.65mm, IPC Medium Density)
footprint CYP-ZX8_L (SOP, 8-Leads, Body 4.5x3.1mm, Pitch 0.65mm, IPC High Density)
footprint CYP-ZX8_M (SOP, 8-Leads, Body 4.5x3.1mm, Pitch 0.65mm, IPC Low Density)
pins: 1 BUF_IN (in) "Input clock", 2 OE (in) "Input pin for output enable, active HIGH.", 3 OUTPUT1 (out) "Outputs", 4 GND (power) "Ground", 5 OUTPUT2 (out) "Outputs", 6 VDD (power) "3.3 V voltage supply", 7 OUTPUT3 (out) "Outputs", 8 OUTPUT4 (out) "Outputs"

## CY2304NZZXI-1
designator U?
PCI-X and General Purpose Buffer, 3.3 V, 4 Outputs, 140 MHz Maximum, -40 to 85 degC, 8-Pin TSSOP (ZX8), Tube; Manufacturer: Cypress; PartNumber: CY2304NZZXI-1; Input Frequency Max. (MHz): 140; Max. Operating Voltage (V): 3.6; Min. Operating Voltage (V): 3; No. of Outputs: 4; DatasheetVersion: Rev. *H; PackageVersion: Rev. *D, 09/2011; PackageReference: ZX8; PackageDescription: 8-Pin Thin Shrink Small Outline Package, Body 4.4 x 3 mm, Pitch 0.65 mm; Supplier 1: Digi-Key; Supplier Part Number 1: 428-2191-5-ND; Supplier 2: Farnell; Supplier Part Number 2: 1837338; Supplier 3: Newark; Supplier Part Number 3: 19M5954; Supplier 4: Mouser; Supplier Part Number 4: 727-CY2304NZZXI-1; Max. Operating Temp. (degreesC): 85; Min. Operating Temp. (degreesC): -40; Output Frequency Max. (MHz): 140; Packing: Tube; RoHS: Pb-Free; Mounting Technology: Surface Mount; Code_JEDEC: MO-153; ComponentLink1Description: Manufacturer URL; ComponentLink1URL: http://www.cypress.com/; ComponentLink2Description: Datasheet; ComponentLink2URL: http://www.cypress.com/?docID=48468; ComponentLink3Description: Package Specification; ComponentLink3URL: http://www.cypress.com/?docID=39142
footprint CYP-ZX8_N (SOP, 8-Leads, Body 4.5x3.1mm, Pitch 0.65mm, IPC Medium Density)
footprint CYP-ZX8_L (SOP, 8-Leads, Body 4.5x3.1mm, Pitch 0.65mm, IPC High Density)
footprint CYP-ZX8_M (SOP, 8-Leads, Body 4.5x3.1mm, Pitch 0.65mm, IPC Low Density)
pins: 1 BUF_IN (in) "Input clock", 2 OE (in) "Input pin for output enable, active HIGH.", 3 OUTPUT1 (out) "Outputs", 4 GND (power) "Ground", 5 OUTPUT2 (out) "Outputs", 6 VDD (power) "3.3 V voltage supply", 7 OUTPUT3 (out) "Outputs", 8 OUTPUT4 (out) "Outputs"

## CY2304NZZXI-1T
designator U?
PCI-X and General Purpose Buffer, 3.3 V, 4 Outputs, 140 MHz Maximum, -40 to 85 degC, 8-Pin TSSOP (ZX8), Tape and Reel; Manufacturer: Cypress; PartNumber: CY2304NZZXI-1T; Input Frequency Max. (MHz): 140; Max. Operating Voltage (V): 3.6; Min. Operating Voltage (V): 3; No. of Outputs: 4; DatasheetVersion: Rev. *H; PackageVersion: Rev. *D, 09/2011; PackageReference: ZX8; PackageDescription: 8-Pin Thin Shrink Small Outline Package, Body 4.4 x 3 mm, Pitch 0.65 mm; Supplier 1: Digi-Key; Supplier Part Number 1: CY2304NZZXI-1T-ND; Supplier 2: Newark; Supplier Part Number 2: 19M5955; Supplier 3: Mouser; Supplier Part Number 3: 727-CY2304NZZXI-1T; Max. Operating Temp. (degreesC): 85; Min. Operating Temp. (degreesC): -40; Output Frequency Max. (MHz): 140; Packing: Tape and Reel; RoHS: Pb-Free; Mounting Technology: Surface Mount; Code_JEDEC: MO-153; ComponentLink1Description: Manufacturer URL; ComponentLink1URL: http://www.cypress.com/; ComponentLink2Description: Datasheet; ComponentLink2URL: http://www.cypress.com/?docID=48468; ComponentLink3Description: Package Specification; ComponentLink3URL: http://www.cypress.com/?docID=39142
footprint CYP-ZX8_N (SOP, 8-Leads, Body 4.5x3.1mm, Pitch 0.65mm, IPC Medium Density)
footprint CYP-ZX8_L (SOP, 8-Leads, Body 4.5x3.1mm, Pitch 0.65mm, IPC High Density)
footprint CYP-ZX8_M (SOP, 8-Leads, Body 4.5x3.1mm, Pitch 0.65mm, IPC Low Density)
pins: 1 BUF_IN (in) "Input clock", 2 OE (in) "Input pin for output enable, active HIGH.", 3 OUTPUT1 (out) "Outputs", 4 GND (power) "Ground", 5 OUTPUT2 (out) "Outputs", 6 VDD (power) "3.3 V voltage supply", 7 OUTPUT3 (out) "Outputs", 8 OUTPUT4 (out) "Outputs"

## CY2304SXC-1
designator U?
Zero Delay Buffer, 3.3 V, 4 Outputs, 10 to 133 MHz, 0 to 70 degC, 8-Pin SOIC (SX8), Tube; Manufacturer: Cypress; PartNumber: CY2304SXC-1; Input Frequency Max. (MHz): 133; Input Frequency Min. (MHz): 10; Max. Operating Voltage (V): 3.6; Min. Operating Voltage (V): 3; No. of Outputs: 4; DatasheetVersion: Rev. *L; PackageVersion: Rev. *E, 06/2011; PackageReference: SX8; PackageDescription: 8-pin Lead SOIC-S08, Body 4.89 x 3.90 mm,Pitch 1.27 mm; Supplier 1: Digi-Key; Supplier Part Number 1: 428-2192-5-ND; Supplier 2: Farnell; Supplier Part Number 2: 8911266; Supplier 3: Newark; Supplier Part Number 3: 19M5956; Supplier 4: Mouser; Supplier Part Number 4: 727-CY2304SXC-1; Max. Operating Temp. (degreesC): 70; Min. Operating Temp. (degreesC): 0; Output Frequency Max. (MHz): 133; Output Frequency Min. (MHz): 10; Packing: Tube; RoHS: Pb-Free; Mounting Technology: Surface Mount; Code_JEDEC: MS-012; ComponentLink1Description: Manufacturer URL; ComponentLink1URL: http://www.cypress.com/; ComponentLink2Description: Datasheet; ComponentLink2URL: http://www.cypress.com/?docID=47940; ComponentLink3Description: Package Specification; ComponentLink3URL: http://www.cypress.com/?docID=39153
footprint CYP-SX8_N (SOIC, 8-Leads, Body 4.89x3.90mm, Pitch 1.27mm, IPC Medium Density)
footprint CYP-SX8_L (SOIC, 8-Leads, Body 4.89x3.90mm, Pitch 1.27mm, IPC High Density)
footprint CYP-SX8_M (SOIC, 8-Leads, Body 4.89x3.90mm, Pitch 1.27mm, IPC Low Density)
pins: 1 REF (in) "Input reference frequency, 5 V tolerant input", 2 CLKA1 (hiz) "Clock output, Bank A", 3 CLKA2 (hiz) "Clock output, Bank A", 4 GND (power) "Ground", 5 CLKB1 (hiz) "Clock output, Bank B", 6 CLKB2 (hiz) "Clock output, Bank B", 7 VDD (power) "3.3 V supply", 8 FBK (in) "PLL feedback input"

## CY2304SXC-1T
designator U?
Zero Delay Buffer, 3.3 V, 4 Outputs, 10 to 133 MHz, 0 to 70 degC, 8-Pin SOIC (SX8), Tape and Reel; Manufacturer: Cypress; PartNumber: CY2304SXC-1T; Input Frequency Max. (MHz): 133; Input Frequency Min. (MHz): 10; Max. Operating Voltage (V): 3.6; Min. Operating Voltage (V): 3; No. of Outputs: 4; DatasheetVersion: Rev. *L; PackageVersion: Rev. *E, 06/2011; PackageReference: SX8; PackageDescription: 8-pin Lead SOIC-S08, Body 4.89 x 3.90 mm,Pitch 1.27 mm; Supplier 1: Digi-Key; Supplier Part Number 1: CY2304SXC-1T-ND; Supplier 2: Newark; Supplier Part Number 2: 19M5957; Supplier 3: Mouser; Supplier Part Number 3: 727-CY2304SXC-1T; Max. Operating Temp. (degreesC): 70; Min. Operating Temp. (degreesC): 0; Output Frequency Max. (MHz): 133; Output Frequency Min. (MHz): 10; Packing: Tape and Reel; RoHS: Pb-Free; Mounting Technology: Surface Mount; Code_JEDEC: MS-012; ComponentLink1Description: Manufacturer URL; ComponentLink1URL: http://www.cypress.com/; ComponentLink2Description: Datasheet; ComponentLink2URL: http://www.cypress.com/?docID=47940; ComponentLink3Description: Package Specification; ComponentLink3URL: http://www.cypress.com/?docID=39153
footprint CYP-SX8_N (SOIC, 8-Leads, Body 4.89x3.90mm, Pitch 1.27mm, IPC Medium Density)
footprint CYP-SX8_L (SOIC, 8-Leads, Body 4.89x3.90mm, Pitch 1.27mm, IPC High Density)
footprint CYP-SX8_M (SOIC, 8-Leads, Body 4.89x3.90mm, Pitch 1.27mm, IPC Low Density)
pins: 1 REF (in) "Input reference frequency, 5 V tolerant input", 2 CLKA1 (hiz) "Clock output, Bank A", 3 CLKA2 (hiz) "Clock output, Bank A", 4 GND (power) "Ground", 5 CLKB1 (hiz) "Clock output, Bank B", 6 CLKB2 (hiz) "Clock output, Bank B", 7 VDD (power) "3.3 V supply", 8 FBK (in) "PLL feedback input"

## CY2304SXC-2
designator U?
Zero Delay Buffer, 3.3 V, 4 Outputs, 10 to 133 MHz, 0 to 70 degC, 8-Pin SOIC (SX8), Tube; Manufacturer: Cypress; PartNumber: CY2304SXC-2; Input Frequency Max. (MHz): 133; Input Frequency Min. (MHz): 10; Max. Operating Voltage (V): 3.6; Min. Operating Voltage (V): 3; No. of Outputs: 4; DatasheetVersion: Rev. *L; PackageVersion: Rev. *E, 06/2011; PackageReference: SX8; PackageDescription: 8-pin Lead SOIC-S08, Body 4.89 x 3.90 mm,Pitch 1.27 mm; Supplier 1: Digi-Key; Supplier Part Number 1: 428-2894-5-ND; Supplier 2: Mouser; Supplier Part Number 2: 727-CY2304SXC2; Max. Operating Temp. (degreesC): 70; Min. Operating Temp. (degreesC): 0; Output Frequency Max. (MHz): 133; Output Frequency Min. (MHz): 10; Packing: Tube; RoHS: Pb-Free; Mounting Technology: Surface Mount; Code_JEDEC: MS-012; ComponentLink1Description: Manufacturer URL; ComponentLink1URL: http://www.cypress.com/; ComponentLink2Description: Datasheet; ComponentLink2URL: http://www.cypress.com/?docID=47940; ComponentLink3Description: Package Specification; ComponentLink3URL: http://www.cypress.com/?docID=39153
footprint CYP-SX8_N (SOIC, 8-Leads, Body 4.89x3.90mm, Pitch 1.27mm, IPC Medium Density)
footprint CYP-SX8_L (SOIC, 8-Leads, Body 4.89x3.90mm, Pitch 1.27mm, IPC High Density)
footprint CYP-SX8_M (SOIC, 8-Leads, Body 4.89x3.90mm, Pitch 1.27mm, IPC Low Density)
pins: 1 REF (in) "Input reference frequency, 5 V tolerant input", 2 CLKA1 (hiz) "Clock output, Bank A", 3 CLKA2 (hiz) "Clock output, Bank A", 4 GND (power) "Ground", 5 CLKB1 (hiz) "Clock output, Bank B", 6 CLKB2 (hiz) "Clock output, Bank B", 7 VDD (power) "3.3 V supply", 8 FBK (in) "PLL feedback input"

## CY2304SXC-2T
designator U?
Zero Delay Buffer, 3.3 V, 4 Outputs, 10 to 133 MHz, 0 to 70 degC, 8-Pin SOIC (SX8), Tape and Reel; Manufacturer: Cypress; PartNumber: CY2304SXC-2T; Input Frequency Max. (MHz): 133; Input Frequency Min. (MHz): 10; Max. Operating Voltage (V): 3.6; Min. Operating Voltage (V): 3; No. of Outputs: 4; DatasheetVersion: Rev. *L; PackageVersion: Rev. *E, 06/2011; PackageReference: SX8; PackageDescription: 8-pin Lead SOIC-S08, Body 4.89 x 3.90 mm,Pitch 1.27 mm; Supplier 1: Digi-Key; Supplier Part Number 1: CY2304SXC-2T-ND; Supplier 2: Mouser; Supplier Part Number 2: 727-CY2304SXC-2T; Max. Operating Temp. (degreesC): 70; Min. Operating Temp. (degreesC): 0; Output Frequency Max. (MHz): 133; Output Frequency Min. (MHz): 10; Packing: Tape and Reel; RoHS: Pb-Free; Mounting Technology: Surface Mount; Code_JEDEC: MS-012; ComponentLink1Description: Manufacturer URL; ComponentLink1URL: http://www.cypress.com/; ComponentLink2Description: Datasheet; ComponentLink2URL: http://www.cypress.com/?docID=47940; ComponentLink3Description: Package Specification; ComponentLink3URL: http://www.cypress.com/?docID=39153
footprint CYP-SX8_N (SOIC, 8-Leads, Body 4.89x3.90mm, Pitch 1.27mm, IPC Medium Density)
footprint CYP-SX8_L (SOIC, 8-Leads, Body 4.89x3.90mm, Pitch 1.27mm, IPC High Density)
footprint CYP-SX8_M (SOIC, 8-Leads, Body 4.89x3.90mm, Pitch 1.27mm, IPC Low Density)
pins: 1 REF (in) "Input reference frequency, 5 V tolerant input", 2 CLKA1 (hiz) "Clock output, Bank A", 3 CLKA2 (hiz) "Clock output, Bank A", 4 GND (power) "Ground", 5 CLKB1 (hiz) "Clock output, Bank B", 6 CLKB2 (hiz) "Clock output, Bank B", 7 VDD (power) "3.3 V supply", 8 FBK (in) "PLL feedback input"

## CY2304SXI-1
designator U?
Zero Delay Buffer, 3.3 V, 4 Outputs, 10 to 133 MHz, -40 to 85 degC, 8-Pin SOIC (SX8), Tube; Manufacturer: Cypress; PartNumber: CY2304SXI-1; Input Frequency Max. (MHz): 133; Input Frequency Min. (MHz): 10; Max. Operating Voltage (V): 3.6; Min. Operating Voltage (V): 3; No. of Outputs: 4; DatasheetVersion: Rev. *L; PackageVersion: Rev. *E, 06/2011; PackageReference: SX8; PackageDescription: 8-pin Lead SOIC-S08, Body 4.89 x 3.90 mm,Pitch 1.27 mm; Supplier 1: Digi-Key; Supplier Part Number 1: CY2304SXI-1-ND; Supplier 2: Newark; Supplier Part Number 2: 19M2131; Supplier 3: Mouser; Supplier Part Number 3: 727-CY2304SXI-1; Max. Operating Temp. (degreesC): 85; Min. Operating Temp. (degreesC): -40; Output Frequency Max. (MHz): 133; Output Frequency Min. (MHz): 10; Packing: Tube; RoHS: Pb-Free; Mounting Technology: Surface Mount; Code_JEDEC: MS-012; ComponentLink1Description: Manufacturer URL; ComponentLink1URL: http://www.cypress.com/; ComponentLink2Description: Datasheet; ComponentLink2URL: http://www.cypress.com/?docID=47940; ComponentLink3Description: Package Specification; ComponentLink3URL: http://www.cypress.com/?docID=39153
footprint CYP-SX8_N (SOIC, 8-Leads, Body 4.89x3.90mm, Pitch 1.27mm, IPC Medium Density)
footprint CYP-SX8_L (SOIC, 8-Leads, Body 4.89x3.90mm, Pitch 1.27mm, IPC High Density)
footprint CYP-SX8_M (SOIC, 8-Leads, Body 4.89x3.90mm, Pitch 1.27mm, IPC Low Density)
pins: 1 REF (in) "Input reference frequency, 5 V tolerant input", 2 CLKA1 (hiz) "Clock output, Bank A", 3 CLKA2 (hiz) "Clock output, Bank A", 4 GND (power) "Ground", 5 CLKB1 (hiz) "Clock output, Bank B", 6 CLKB2 (hiz) "Clock output, Bank B", 7 VDD (power) "3.3 V supply", 8 FBK (in) "PLL feedback input"

## CY2304SXI-1T
designator U?
Zero Delay Buffer, 3.3 V, 4 Outputs, 10 to 133 MHz, -40 to 85 degC, 8-Pin SOIC (SX8), Tape and Reel; Manufacturer: Cypress; PartNumber: CY2304SXI-1T; Input Frequency Max. (MHz): 133; Input Frequency Min. (MHz): 10; Max. Operating Voltage (V): 3.6; Min. Operating Voltage (V): 3; No. of Outputs: 4; DatasheetVersion: Rev. *L; PackageVersion: Rev. *E, 06/2011; PackageReference: SX8; PackageDescription: 8-pin Lead SOIC-S08, Body 4.89 x 3.90 mm,Pitch 1.27 mm; Supplier 1: Digi-Key; Supplier Part Number 1: CY2304SXI-1T-ND; Supplier 2: Newark; Supplier Part Number 2: 19M2132; Supplier 3: Mouser; Supplier Part Number 3: 727-CY2304SXI-1T; Max. Operating Temp. (degreesC): 85; Min. Operating Temp. (degreesC): -40; Output Frequency Max. (MHz): 133; Output Frequency Min. (MHz): 10; Packing: Tape and Reel; RoHS: Pb-Free; Mounting Technology: Surface Mount; Code_JEDEC: MS-012; ComponentLink1Description: Manufacturer URL; ComponentLink1URL: http://www.cypress.com/; ComponentLink2Description: Datasheet; ComponentLink2URL: http://www.cypress.com/?docID=47940; ComponentLink3Description: Package Specification; ComponentLink3URL: http://www.cypress.com/?docID=39153
footprint CYP-SX8_N (SOIC, 8-Leads, Body 4.89x3.90mm, Pitch 1.27mm, IPC Medium Density)
footprint CYP-SX8_L (SOIC, 8-Leads, Body 4.89x3.90mm, Pitch 1.27mm, IPC High Density)
footprint CYP-SX8_M (SOIC, 8-Leads, Body 4.89x3.90mm, Pitch 1.27mm, IPC Low Density)
pins: 1 REF (in) "Input reference frequency, 5 V tolerant input", 2 CLKA1 (hiz) "Clock output, Bank A", 3 CLKA2 (hiz) "Clock output, Bank A", 4 GND (power) "Ground", 5 CLKB1 (hiz) "Clock output, Bank B", 6 CLKB2 (hiz) "Clock output, Bank B", 7 VDD (power) "3.3 V supply", 8 FBK (in) "PLL feedback input"

## CY2304SXI-2
designator U?
Zero Delay Buffer, 3.3 V, 4 Outputs, 10 to 133 MHz, -40 to 85 degC, 8-Pin SOIC (SX8), Tube; Manufacturer: Cypress; PartNumber: CY2304SXI-2; Input Frequency Max. (MHz): 133; Input Frequency Min. (MHz): 10; Max. Operating Voltage (V): 3.6; Min. Operating Voltage (V): 3; No. of Outputs: 4; DatasheetVersion: Rev. *L; PackageVersion: Rev. *E, 06/2011; PackageReference: SX8; PackageDescription: 8-pin Lead SOIC-S08, Body 4.89 x 3.90 mm,Pitch 1.27 mm; Supplier 1: Digi-Key; Supplier Part Number 1: CY2304SXI-2-ND; Supplier 2: Newark; Supplier Part Number 2: 19M2133; Supplier 3: Mouser; Supplier Part Number 3: 727-CY2304SXI-2; Max. Operating Temp. (degreesC): 85; Min. Operating Temp. (degreesC): -40; Output Frequency Max. (MHz): 133; Output Frequency Min. (MHz): 10; Packing: Tube; RoHS: Pb-Free; Mounting Technology: Surface Mount; Code_JEDEC: MS-012; ComponentLink1Description: Manufacturer URL; ComponentLink1URL: http://www.cypress.com/; ComponentLink2Description: Datasheet; ComponentLink2URL: http://www.cypress.com/?docID=47940; ComponentLink3Description: Package Specification; ComponentLink3URL: http://www.cypress.com/?docID=39153
footprint CYP-SX8_N (SOIC, 8-Leads, Body 4.89x3.90mm, Pitch 1.27mm, IPC Medium Density)
footprint CYP-SX8_L (SOIC, 8-Leads, Body 4.89x3.90mm, Pitch 1.27mm, IPC High Density)
footprint CYP-SX8_M (SOIC, 8-Leads, Body 4.89x3.90mm, Pitch 1.27mm, IPC Low Density)
pins: 1 REF (in) "Input reference frequency, 5 V tolerant input", 2 CLKA1 (hiz) "Clock output, Bank A", 3 CLKA2 (hiz) "Clock output, Bank A", 4 GND (power) "Ground", 5 CLKB1 (hiz) "Clock output, Bank B", 6 CLKB2 (hiz) "Clock output, Bank B", 7 VDD (power) "3.3 V supply", 8 FBK (in) "PLL feedback input"

## CY2304SXI-2T
designator U?
Zero Delay Buffer, 3.3 V, 4 Outputs, 10 to 133 MHz, -40 to 85 degC, 8-Pin SOIC (SX8), Tape and Reel; Manufacturer: Cypress; PartNumber: CY2304SXI-2T; Input Frequency Max. (MHz): 133; Input Frequency Min. (MHz): 10; Max. Operating Voltage (V): 3.6; Min. Operating Voltage (V): 3; No. of Outputs: 4; DatasheetVersion: Rev. *L; PackageVersion: Rev. *E, 06/2011; PackageReference: SX8; PackageDescription: 8-pin Lead SOIC-S08, Body 4.89 x 3.90 mm,Pitch 1.27 mm; Supplier 1: Digi-Key; Supplier Part Number 1: CY2304SXI-2T-ND; Supplier 2: Mouser; Supplier Part Number 2: 727-CY2304SXI-2T; Max. Operating Temp. (degreesC): 85; Min. Operating Temp. (degreesC): -40; Output Frequency Max. (MHz): 133; Output Frequency Min. (MHz): 10; Packing: Tape and Reel; RoHS: Pb-Free; Mounting Technology: Surface Mount; Code_JEDEC: MS-012; ComponentLink1Description: Manufacturer URL; ComponentLink1URL: http://www.cypress.com/; ComponentLink2Description: Datasheet; ComponentLink2URL: http://www.cypress.com/?docID=47940; ComponentLink3Description: Package Specification; ComponentLink3URL: http://www.cypress.com/?docID=39153
footprint CYP-SX8_N (SOIC, 8-Leads, Body 4.89x3.90mm, Pitch 1.27mm, IPC Medium Density)
footprint CYP-SX8_L (SOIC, 8-Leads, Body 4.89x3.90mm, Pitch 1.27mm, IPC High Density)
footprint CYP-SX8_M (SOIC, 8-Leads, Body 4.89x3.90mm, Pitch 1.27mm, IPC Low Density)
pins: 1 REF (in) "Input reference frequency, 5 V tolerant input", 2 CLKA1 (hiz) "Clock output, Bank A", 3 CLKA2 (hiz) "Clock output, Bank A", 4 GND (power) "Ground", 5 CLKB1 (hiz) "Clock output, Bank B", 6 CLKB2 (hiz) "Clock output, Bank B", 7 VDD (power) "3.3 V supply", 8 FBK (in) "PLL feedback input"

## CY2305CSXA-1H
designator U?
Zero Delay Clock Buffer, 3.3 V, 5 Outputs, 10 to 133 MHz, -40 to 85 degC, 8-Pin SOIC (SX8), Tube; Manufacturer: Cypress; PartNumber: CY2305CSXA-1H; Input Frequency Max. (MHz): 133; Input Frequency Min. (MHz): 10; Max. Operating Voltage (V): 3.6; Min. Operating Voltage (V): 3; No. of Outputs: 5; DatasheetVersion: Rev. *M; PackageVersion: Rev. *E, 06/2011; PackageReference: SX8; PackageDescription: 8-pin Lead SOIC-S08, Body 4.89 x 3.90 mm,Pitch 1.27 mm; Supplier 1: Digi-Key; Supplier Part Number 1: CY2305CSXA-1H-ND; Supplier 2: Mouser; Supplier Part Number 2: 727-CY2305CSXA1H; Max. Operating Temp. (degreesC): 85; Min. Operating Temp. (degreesC): -40; Output Frequency Max. (MHz): 133; Output Frequency Min. (MHz): 10; Packing: Tube; RoHS: Pb-Free; Mounting Technology: Surface Mount; Code_JEDEC: MS-012; ComponentLink1Description: Manufacturer URL; ComponentLink1URL: http://www.cypress.com/; ComponentLink2Description: Datasheet; ComponentLink2URL: http://www.cypress.com/?docID=46973; ComponentLink3Description: Package Specification; ComponentLink3URL: http://www.cypress.com/?docID=39153
footprint CYP-SX8_N (SOIC, 8-Leads, Body 4.89x3.90mm, Pitch 1.27mm, IPC Medium Density)
footprint CYP-SX8_L (SOIC, 8-Leads, Body 4.89x3.90mm, Pitch 1.27mm, IPC High Density)
footprint CYP-SX8_M (SOIC, 8-Leads, Body 4.89x3.90mm, Pitch 1.27mm, IPC Low Density)
pins: 1 REF (in) "Input reference frequency", 2 CLK2 (hiz) "Buffered clock output", 3 CLK1 (hiz) "Buffered clock output", 4 GND (power) "Ground", 5 CLK3 (hiz) "Buffered clock output", 6 VDD (power) "3.3 V supply", 7 CLK4 (hiz) "Buffered clock output", 8 CLKOUT (hiz) "Buffered clock output, internal feedback on this pin"